# Altium schematic symbol library added_elements.SchLib: 2 symbols
Pins are listed as number, name and electrical type; pins without a type are passive.

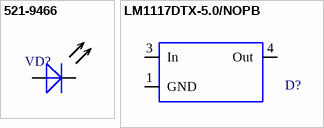
[diagram p0: symbols 521-9466 to LM1117DTX-5.0/NOPB]

## 521-9466
designator VD?
Светодиод 5мм желтый; BOM: 521-9466 Dialight
footprint 521-9466
pins: A, C

## LM1117DTX-5.0/NOPB
designator D?
footprint TO-252 (D-PAK, 3-Pads, Body 6,21x6,73mm (max), IPC Medium Density)
pins: 1 GND (power), 3 In (power), 4 Out (power)